# Altium footprint library LM2621.PcbLib: 3 footprints
Each footprint in its own frame and in the unit in brackets; x right, y up, seen from the top. Pads: shape width x height; smd on the part's side, far side on the other; paste and mask are expansions set on the pad; w line width, h text height; cw(c..) or ccw(c..) is an arc to the next point about the centre after c.
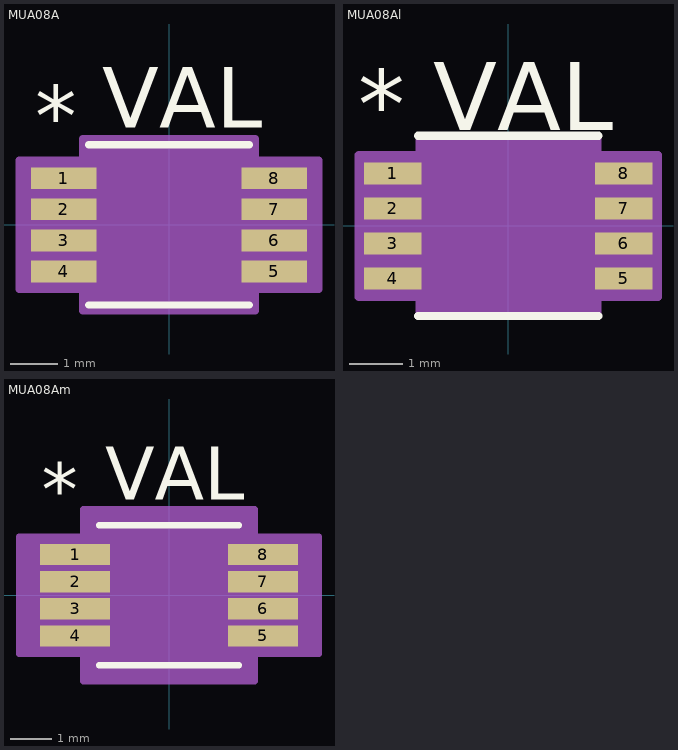
[diagram p0: the footprints below, top view; thin cyan lines are the x and y axes]

## MUA08A [mil]
pads (8):
  rect 54x18 smd: 1(-86.5,38.39) 2(-86.5,12.8) 3(-86.5,-12.8) 4(-86.5,-38.39) 5(86.5,-38.39) 6(86.5,-12.8) 7(86.5,12.8) 8(86.5,38.39)
Top Overlay:
  lines w6: -66,-66 66,-66 ; -66,66 66,66
  text "VAL" at -55,80 h50
  text "*" at -110,65 h50
Mechanical 13:
  lines w0: -12,61 ccw(c0,61) 12,61
  text "*" at -110,65 h50
Mechanical 15:
  region: -71,-53.18 -123.5,-53.18 -123.5,53.18 -71,53.18 -71,71 71,71 71,53.18 123.5,53.18 123.5,-53.18 71,-53.18 71,-71 -71,-71
  lines w6: -123.5,-53.18 -71,-53.18 -71,-71 71,-71 71,-53.18 123.5,-53.18 123.5,53.18 71,53.18 71,71 -71,71 -71,53.18 -123.5,53.18 -123.5,-53.18
Multi-Layer:
  text "Copyright (C) 2015 Accelerated Designs. All rights reserved" at 0,0 h1

## MUA08Al [mil]
pads (8):
  rect 42x16 smd: 1(-84.5,38.39) 2(-84.5,12.8) 3(-84.5,-12.8) 4(-84.5,-38.39) 5(84.5,-38.39) 6(84.5,-12.8) 7(84.5,12.8) 8(84.5,38.39)
Top Overlay:
  lines w6: -66,-66 66,-66 ; -66,66 66,66
  text "VAL" at -55,70 h50
  text "*" at -110,65 h50
Mechanical 13:
  lines w0: -12,61 ccw(c0,61) 12,61
  text "*" at -110,65 h50
Mechanical 15:
  region: -65,-51.98 -109.5,-51.98 -109.5,51.98 -65,51.98 -65,65 65,65 65,51.98 109.5,51.98 109.5,-51.98 65,-51.98 65,-65 -65,-65
  lines w6: -109.5,-51.98 -65,-51.98 -65,-65 65,-65 65,-51.98 109.5,-51.98 109.5,51.98 65,51.98 65,65 -65,65 -65,51.98 -109.5,51.98 -109.5,-51.98
Multi-Layer:
  text "Copyright (C) 2015 Accelerated Designs. All rights reserved" at 0,0 h1

## MUA08Am [mil]
pads (8):
  rect 66x20 smd: 1(-88.5,38.39) 2(-88.5,12.8) 3(-88.5,-12.8) 4(-88.5,-38.39) 5(88.5,-38.39) 6(88.5,-12.8) 7(88.5,12.8) 8(88.5,38.39)
Top Overlay:
  lines w6: -66,-66 66,-66 ; -66,66 66,66
  text "VAL" at -60,90 h50
  text "*" at -120,75 h50
Mechanical 13:
  lines w0: -12,61 ccw(c0,61) 12,61
  text "*" at -120,75 h50
Mechanical 15:
  region: -81,-55.18 -141.5,-55.18 -141.5,55.18 -81,55.18 -81,81 81,81 81,55.18 141.5,55.18 141.5,-55.18 81,-55.18 81,-81 -81,-81
  lines w6: -141.5,-55.18 -81,-55.18 -81,-81 81,-81 81,-55.18 141.5,-55.18 141.5,55.18 81,55.18 81,81 -81,81 -81,55.18 -141.5,55.18 -141.5,-55.18
Multi-Layer:
  text "Copyright (C) 2015 Accelerated Designs. All rights reserved" at 0,0 h1